# EAGLE library part AK4120 (library akm)
Sample Rate Converter with Mixer/Volume 24-Bit, 96 kHz
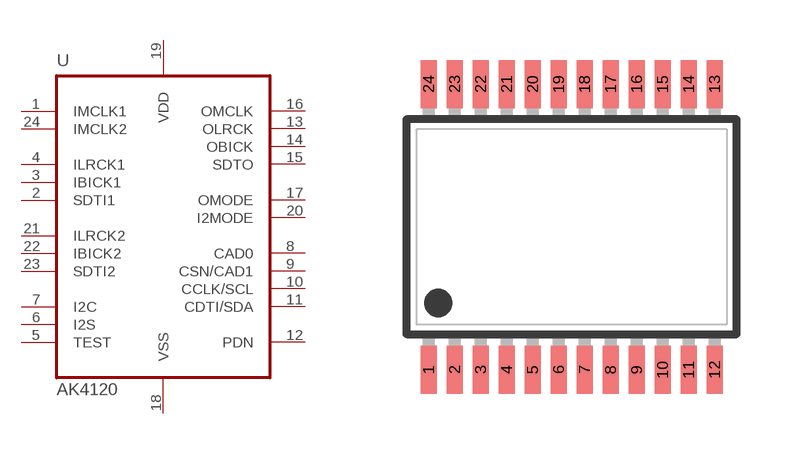
[diagram p8: symbol with the pads of VSOP24; footprint VSOP24]

Designator prefix U

## AK4120  [VSOP24]
1  IMCLK1  in
2  SDTI1  in
3  IBICK1  in
4  ILRCK1  in
5  TEST
6  I2S  in
7  I2C  in
8  CAD0  in
9  CSN/CAD1  in
10  CCLK/SCL  in
11  CDTI/SDA
12  PDN  in
13  OLRCK
14  OBICK
15  SDTO  out
16  OMCLK  in
17  OMODE
18  VSS  pwr
19  VDD  pwr
20  I2MODE  in
21  ILRCK2
22  IBICK2
23  SDTI2  in
24  IMCLK2  in

## Footprint VSOP24 (pad centres in mm)
VSOP24 7.8 x 5.6 mm, pitch .65 mm
smd 0.4 x 1.2: 1 -3.575,-3.57; 2 -2.925,-3.57; 3 -2.275,-3.57; 4 -1.625,-3.57; 5 -0.975,-3.57; 6 -0.325,-3.57; 7 0.325,-3.57; 8 0.975,-3.57; 9 1.625,-3.57; 10 2.275,-3.57; 11 2.925,-3.57; 12 3.575,-3.57; 13 3.575,3.57; 14 2.925,3.57; 15 2.275,3.57; 16 1.625,3.57; 17 0.975,3.57; 18 0.325,3.57; 19 -0.325,3.57; 20 -0.975,3.57; 21 -1.625,3.57; 22 -2.275,3.57; 23 -2.925,3.57; 24 -3.575,3.57